# EAGLE library part IC_PIC_18P_16F84 (library mylib_20130829)
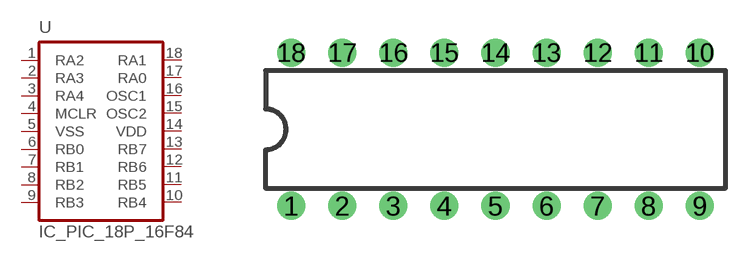
[diagram p3: symbol with the pads of IC_SOCKET_DIL_18; footprint IC_SOCKET_DIL_18]

Designator prefix U

## IC_PIC_18P_16F84  [IC_SOCKET_DIL_18]
1  RA2
2  RA3
3  RA4  in
4  MCLR  in
5  VSS  pwr
6  RB0
7  RB1
8  RB2
9  RB3
10  RB4
11  RB5
12  RB6
13  RB7
14  VDD  pwr
15  OSC2  out
16  OSC1  in
17  RA0
18  RA1

## Footprint IC_SOCKET_DIL_18 (pad centres in mm)
Dual In Line Package
drill 0.889: 1 -10.16,-3.81; 2 -7.62,-3.81; 3 -5.08,-3.81; 4 -2.54,-3.81; 5 0,-3.81; 6 2.54,-3.81; 7 5.08,-3.81; 8 7.62,-3.81; 9 10.16,-3.81; 10 10.16,3.81; 11 7.62,3.81; 12 5.08,3.81; 13 2.54,3.81; 14 0,3.81; 15 -2.54,3.81; 16 -5.08,3.81; 17 -7.62,3.81; 18 -10.16,3.81